# Altium footprint library BUTTON.PcbLib: 1 footprints
Each footprint in its own frame and in the unit in brackets; x right, y up, seen from the top. Pads: shape width x height; smd on the part's side, far side on the other; paste and mask are expansions set on the pad; w line width, h text height; cw(c..) or ccw(c..) is an arc to the next point about the centre after c.
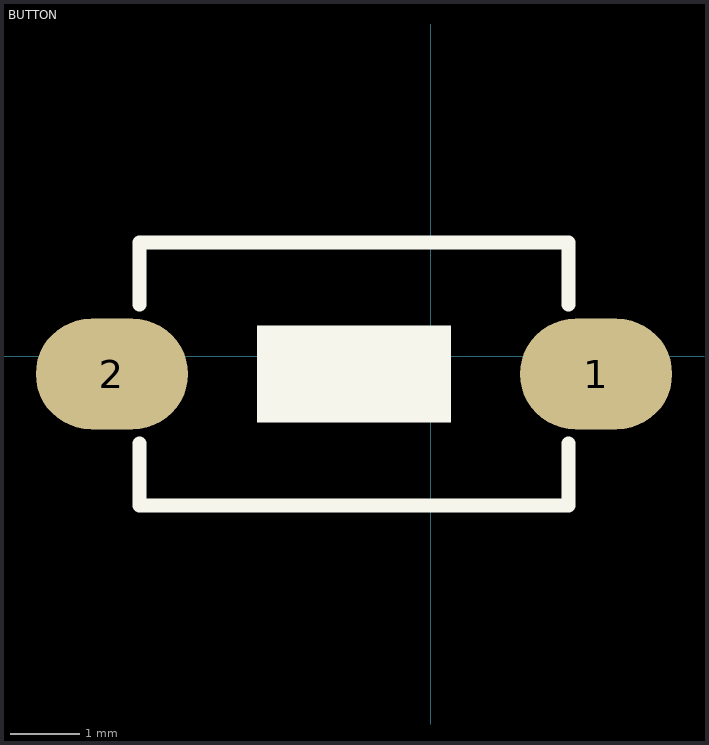
[diagram p0: the footprint, top view; thin cyan lines are the x and y axes]

## BUTTON [mm]
pads (2):
  oval 2.2x1.6 smd mask+0.1: 1(2.394,-0.253) 2(-4.606,-0.253)
Top Overlay:
  rectangle: -2.506,-0.953 0.294,0.447
  lines w0.2: -4.206,-1.253 -4.206,-2.153 1.994,-2.153 1.994,-1.253 ; -4.206,0.747 -4.206,1.647 1.994,1.647 1.994,0.747
3D body "SKQYPA_43452.stp": height 2.5, standoff 0, extent -4.503,-2.112 2.291,1.605